# Altium footprint library Custom.PcbLib: 42 footprints (part 3 of 3)
Each footprint in its own frame and in the unit in brackets; x right, y up, seen from the top. Pads: shape width x height; smd on the part's side, far side on the other; paste and mask are expansions set on the pad; w line width, h text height; cw(c..) or ccw(c..) is an arc to the next point about the centre after c.
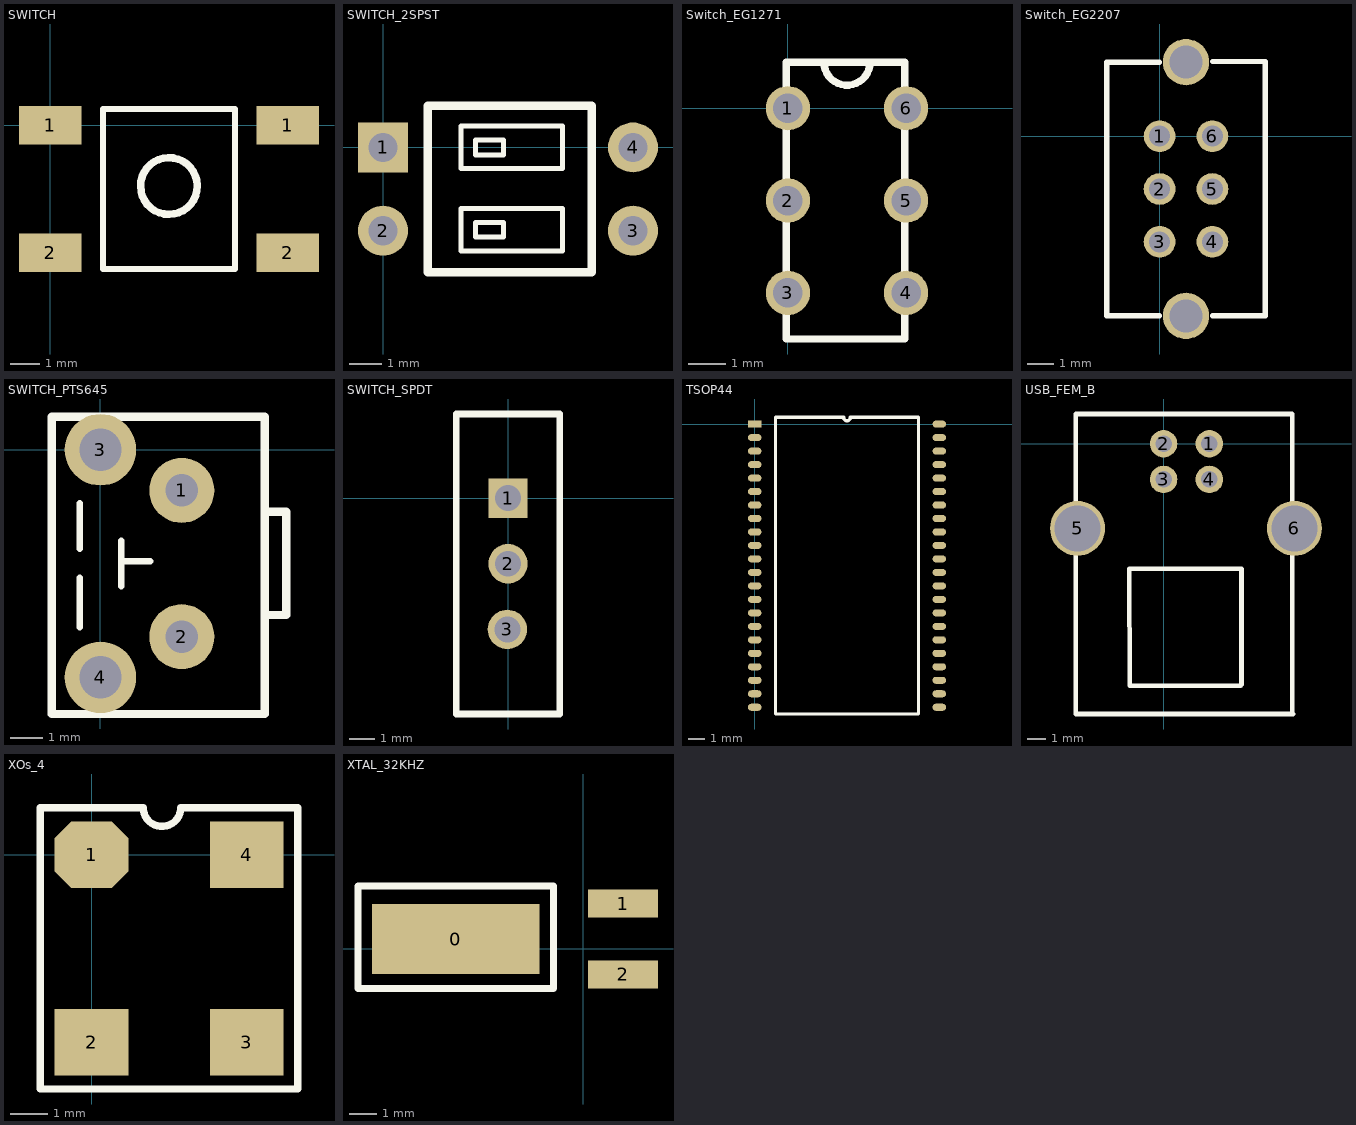
[diagram p2: the footprints below, top view; thin cyan lines are the x and y axes]

## SWITCH [mm]
pads (4):
  rect 2.1x1.3 smd: 1(0,0) 1(8,0) 2(0,-4.3) 2(8,-4.3)
Top Overlay:
  lines w0.2: 1.778,-4.85 1.778,0.55 6.223,0.55 6.223,-4.85 1.778,-4.85
  lines w0.254: 4.952,-2.05 cw(c3.997,-2.05) 4.952,-2.026

## SWITCH_2SPST [mil] "Thru-Hole DIP Switch"
height 300
pads (4):
  rect 60x60 hole 35: 1(0,0)
  round 60 hole 35: 2(0,-100) 3(300,-100) 4(300,0)
Top Overlay:
  lines w6: 111.22,-105.71 111.22,-107.68 ; 111.22,-6.89 111.22,-8.86 ; 111.22,-107.68 111.22,-89.96 144.69,-89.96 144.69,-107.68 111.22,-107.68 ; 111.22,-8.86 111.22,8.86 144.69,8.86 144.69,-8.86 111.22,-8.86 ; 93.5,-124.41 215.55,-124.41 215.55,-73.23 93.5,-73.23 93.5,-124.41 ; 93.5,-25.59 215.55,-25.59 215.55,25.59 93.5,25.59 93.5,-25.59
  lines w10: 124.02,50.2 250.43,50 250.43,-150 53.5,-150 53.5,50 125,50

## Switch_EG1271 [mm]
pads (6):
  round 1.2 hole 0.8: 1(0,0) 6(3.2,0)
  round 1.2 hole 0.8 mask+0.102: 2(0,-2.5) 3(0,-5) 4(3.2,-5) 5(3.2,-2.5)
Top Overlay:
  lines w0.2: -0.05,-6.25 3.16,-6.25 3.16,1.25 -0.05,1.25 -0.05,-6.225 ; 0.975,1.25 ccw(c1.6,1.25) 2.225,1.25 1.115,1.25

## Switch_EG2207 [mm]
height 3.81
pads (8):
  round 1.2 hole 0.8: 1(0,0) 6(2,0)
  round 1.2 hole 0.8 mask+0.102: 2(0,-2) 3(0,-4) 4(2,-4) 5(2,-2)
  round 1.75 hole 1.25: ""(1,-6.8) ""(1,2.8)
Top Overlay:
  lines w0.2: 0,-6.8 -2,-6.8 -2,2.8 0,2.8 ; 2,-6.8 4,-6.8 4,2.8 ; 2,2.825 4,2.825

## SWITCH_PTS645 [mm]
height 6.35
pads (4):
  round 2 hole 1: 1(2.5,-1.25) 2(2.5,-5.75)
  round 2.2 hole 1.3: 3(0,0) 4(0,-7)
Top Overlay:
  lines w0.2: -0.635,-5.461 -0.635,-3.937 ; -0.635,-3.048 -0.635,-1.651 ; 0.635,-4.191 0.635,-2.794 ; 0.635,-3.429 1.524,-3.429
  lines w0.254: 5.04,-8.128 -1.5,-8.128 -1.5,1.016 5.04,1.016 ; 5.05,-8.128 5.05,1.016 ; 5.05,-5.08 5.715,-5.08 5.715,-1.905 5.05,-1.905

## SWITCH_SPDT [mil]
height 5.4
pads (3):
  rect 60x60 hole 39.37: 1(0,0)
  round 60 hole 39.37: 2(0,-100) 3(-0.98,-200)
Top Overlay:
  lines w10: -78.74,-328.74 -78.74,127.95 78.74,127.95 78.74,-328.74 -78.74,-328.74

## TSOP44 [mm]
pads (44):
  rect 0.8x0.42 smd: 1(0,0)
  oval 0.8x0.42 smd: 2(0,-0.8) 3(0,-1.6) 4(0,-2.4) 5(0,-3.2) 6(0,-4) 7(0,-4.8) 8(0,-5.6) 9(0,-6.4) 10(0,-7.2) 11(0,-8) 12(0,-8.8) 13(0,-9.6) 14(0,-10.4) 15(0,-11.2) 16(0,-12) 17(0,-12.8) 18(0,-13.6) 19(0,-14.4) 20(0,-15.2) 21(0,-16) 22(0,-16.8) 23(10.95,-16.8) 24(10.95,-16) 25(10.95,-15.2) 26(10.95,-14.4) 27(10.95,-13.6) 28(10.95,-12.8) 29(10.95,-12) 30(10.95,-11.2) 31(10.95,-10.4) 32(10.95,-9.6) 33(10.95,-8.8) 34(10.95,-8) 35(10.95,-7.2) 36(10.95,-6.4) 37(10.95,-5.6) 38(10.95,-4.8) 39(10.95,-4) 40(10.95,-3.2) 41(10.95,-2.4) 42(10.95,-1.6) 43(10.95,-0.8) 44(10.95,0)
Top Overlay:
  lines w0.2: 1.235,-17.2 1.235,0.4 5.275,0.4 ccw(c5.475,0.4) 5.675,0.4 9.715,0.4 9.715,-17.2 1.235,-17.2

## USB_FEM_B [mil] "USB Type B Receptacle Connector"
height 500
pads (6):
  round 60 hole 36: 1(100,0) 2(0,0) 3(0,-78) 4(100,-78)
  round 120 hole 100: 5(-188,-185) 6(286,-185)
Top Overlay:
  lines w10: -191.93,-590.55 283.46,-590.55 281.5,-588.58 281.5,64.96 -191.93,64.96 -191.93,-590.55 ; -74.8,-273.62 170.28,-273.62 170.28,-526.57 168.31,-528.54 -73.82,-528.54 -74.8,-273.62

## XOs_4 [mm]
pads (4):
  oct 2x1.8 smd: 1(0,0)
  rect 2x1.8 smd: 2(0,-5.08) 3(4.2,-5.08) 4(4.2,0)
Top Overlay:
  lines w0.2: -1.397,-6.35 5.588,-6.35 5.588,1.27 2.413,1.27 cw(c1.905,1.27) 1.397,1.27 -0.44,1.27 -1.397,1.27 -1.397,-6.35

## XTAL_32KHZ [mm]
height 2
pads (3):
  rect 6x2.5 smd: 0(-4.575,0.35)
  rect 2.5x1 smd: 1(1.425,1.62) 2(1.425,-0.92)
Top Overlay:
  lines w0.254: -1.1,2.25 -8.075,2.25 -8.075,-1.425 -1.075,-1.425 -1.075,2.25